# Altium footprint library COPAL_trimmer_20k_smd.PcbLib: 1 footprints
Each footprint in its own frame and in the unit in brackets; x right, y up, seen from the top. Pads: shape width x height; smd on the part's side, far side on the other; paste and mask are expansions set on the pad; w line width, h text height; cw(c..) or ccw(c..) is an arc to the next point about the centre after c.
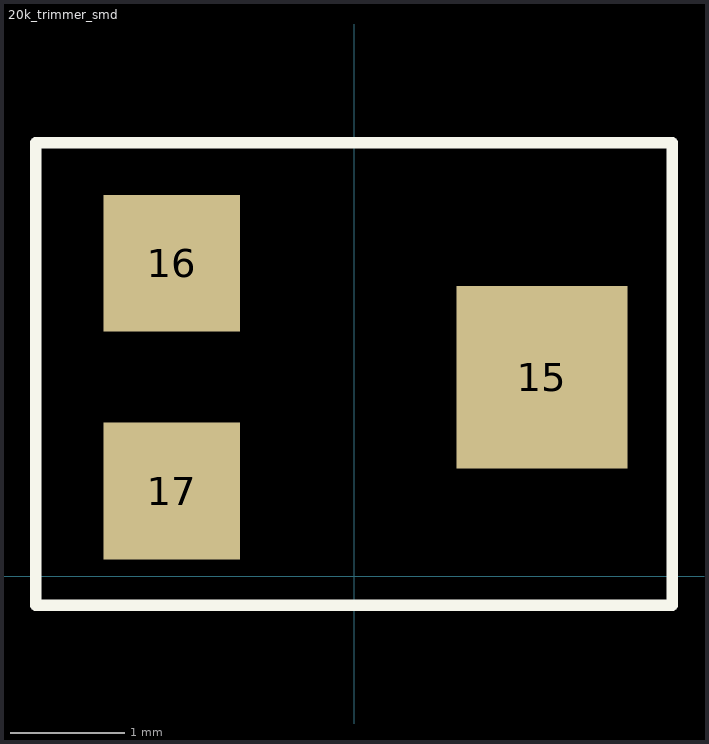
[diagram p0: the footprint, top view; thin cyan lines are the x and y axes]

## 20k_trimmer_smd [mm] "20K Trim-Pot, 3 J-lead SMD"
pads (3):
  rect 1.5x1.6 smd: 15(1.65,1.75)
  rect 1.2x1.2 smd: 16(-1.6,2.75) 17(-1.6,0.75)
Top Overlay:
  lines w0.1: -2.794,-0.254 -2.794,3.81 2.794,3.81 2.794,-0.254 -2.794,-0.254
3D body "ST-32ETA20k_(24).stp": height 2, standoff 0, extent -1.778,0.029 1.722,3.429